# EAGLE library part RFDUINO (library RF-Digital)
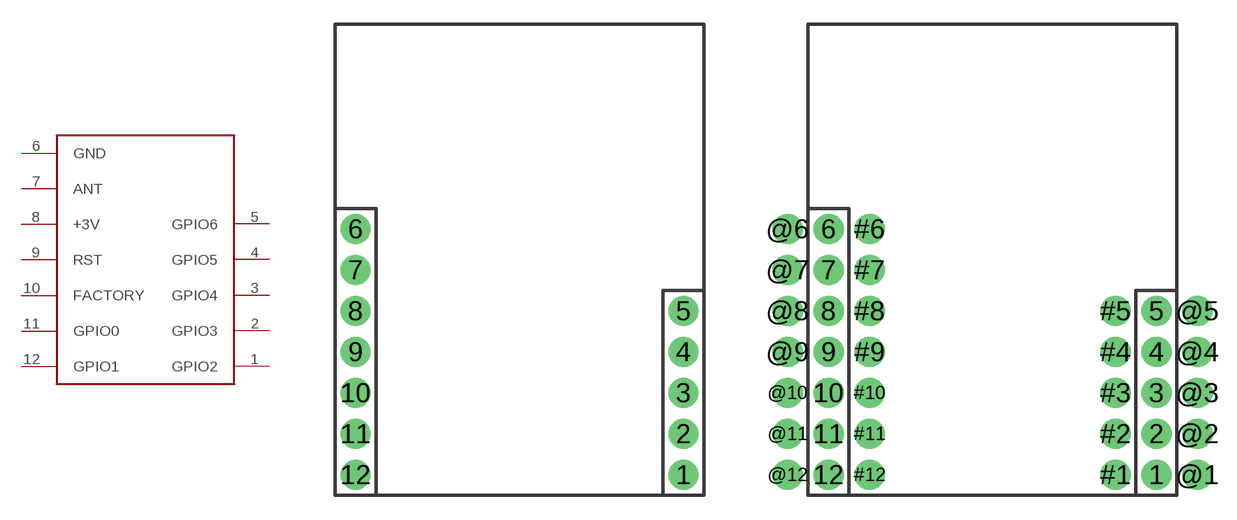
[diagram p3: symbol with the pads of RFDUINO_TH-SIMPLE; footprints RFDUINO_TH-SIMPLE, RFDUINO_TH-STACKABLE]

Designator prefix -

## RFDUINOTH-SIMPLE  [RFDUINO_TH-SIMPLE]
1  GPIO2
2  GPIO3
3  GPIO4
4  GPIO5
5  GPIO6
6  GND  pwr
7  ANT
8  +3V  pwr
9  RST  in
10  FACTORY
11  GPIO0
12  GPIO1

## RFDUINOTH-STACKABLE  [RFDUINO_TH-STACKABLE]
1  GPIO2
2  GPIO3
3  GPIO4
4  GPIO5
5  GPIO6
6  GND  pwr
7  ANT
8  +3V  pwr
9  RST  in
10  FACTORY
11  GPIO0
12  GPIO1
#1  GPIO2
#2  GPIO3
#3  GPIO4
#4  GPIO5
#5  GPIO6
#6  GND  pwr
#7  ANT
#8  +3V  pwr
#9  RST  in
#10  FACTORY
#11  GPIO0
#12  GPIO1
@1  GPIO2
@2  GPIO3
@3  GPIO4
@4  GPIO5
@5  GPIO6
@6  GND  pwr
@7  ANT
@8  +3V  pwr
@9  RST  in
@10  FACTORY
@11  GPIO0
@12  GPIO1

## RFDUINOSMD-SIMPLE  [RFDUINO_SMD]
P$1  GPIO2
P$2  GPIO3
P$3  GPIO4
P$4  GPIO5
P$5  GPIO6
P$6  GND  pwr
P$7  ANT
P$8  +3V  pwr
P$9  RST  in
P$10  FACTORY
P$11  GPIO0
P$12  GPIO1

## Footprint RFDUINO_TH-SIMPLE (pad centres in mm)
drill 1.016 pad 1.88: 1 10.16,-13.97; 2 10.16,-11.43; 3 10.16,-8.89; 4 10.16,-6.35; 5 10.16,-3.81; 6 -10.16,1.27; 7 -10.16,-1.27; 8 -10.16,-3.81; 9 -10.16,-6.35; 10 -10.16,-8.89; 11 -10.16,-11.43; 12 -10.16,-13.97

## Footprint RFDUINO_TH-STACKABLE (pad centres in mm)
drill 1.016 pad 1.88: 1 10.16,-13.97; 2 10.16,-11.43; 3 10.16,-8.89; 4 10.16,-6.35; 5 10.16,-3.81; 6 -10.16,1.27; 7 -10.16,-1.27; 8 -10.16,-3.81; 9 -10.16,-6.35; 10 -10.16,-8.89; 11 -10.16,-11.43; 12 -10.16,-13.97; #1 7.62,-13.97; #2 7.62,-11.43; #3 7.62,-8.89; #4 7.62,-6.35; #5 7.62,-3.81; #6 -7.62,1.27; #7 -7.62,-1.27; #8 -7.62,-3.81; #9 -7.62,-6.35; #10 -7.62,-8.89; #11 -7.62,-11.43; #12 -7.62,-13.97; @1 12.7,-13.97; @2 12.7,-11.43; @3 12.7,-8.89; @4 12.7,-6.35; @5 12.7,-3.81; @6 -12.7,1.27; @7 -12.7,-1.27; @8 -12.7,-3.81; @9 -12.7,-6.35; @10 -12.7,-8.89; @11 -12.7,-11.43; @12 -12.7,-13.97

## Footprint RFDUINO_SMD (pad centres in mm)
smd 5.08 x 1.27: P$1 11.43,-13.97; P$2 11.43,-11.43; P$3 11.43,-8.89; P$4 11.43,-6.35; P$5 11.43,-3.81; P$6 -11.43,1.27; P$7 -11.43,-1.27; P$8 -11.43,-3.81; P$9 -11.43,-6.35; P$10 -11.43,-8.89; P$11 -11.43,-11.43; P$12 -11.43,-13.97